# Altium footprint library XS library.PcbLib: 379 footprints (part 1 of 24)
Each footprint in its own frame and in the unit in brackets; x right, y up, seen from the top. Pads: shape width x height; smd on the part's side, far side on the other; paste and mask are expansions set on the pad; w line width, h text height; cw(c..) or ccw(c..) is an arc to the next point about the centre after c.
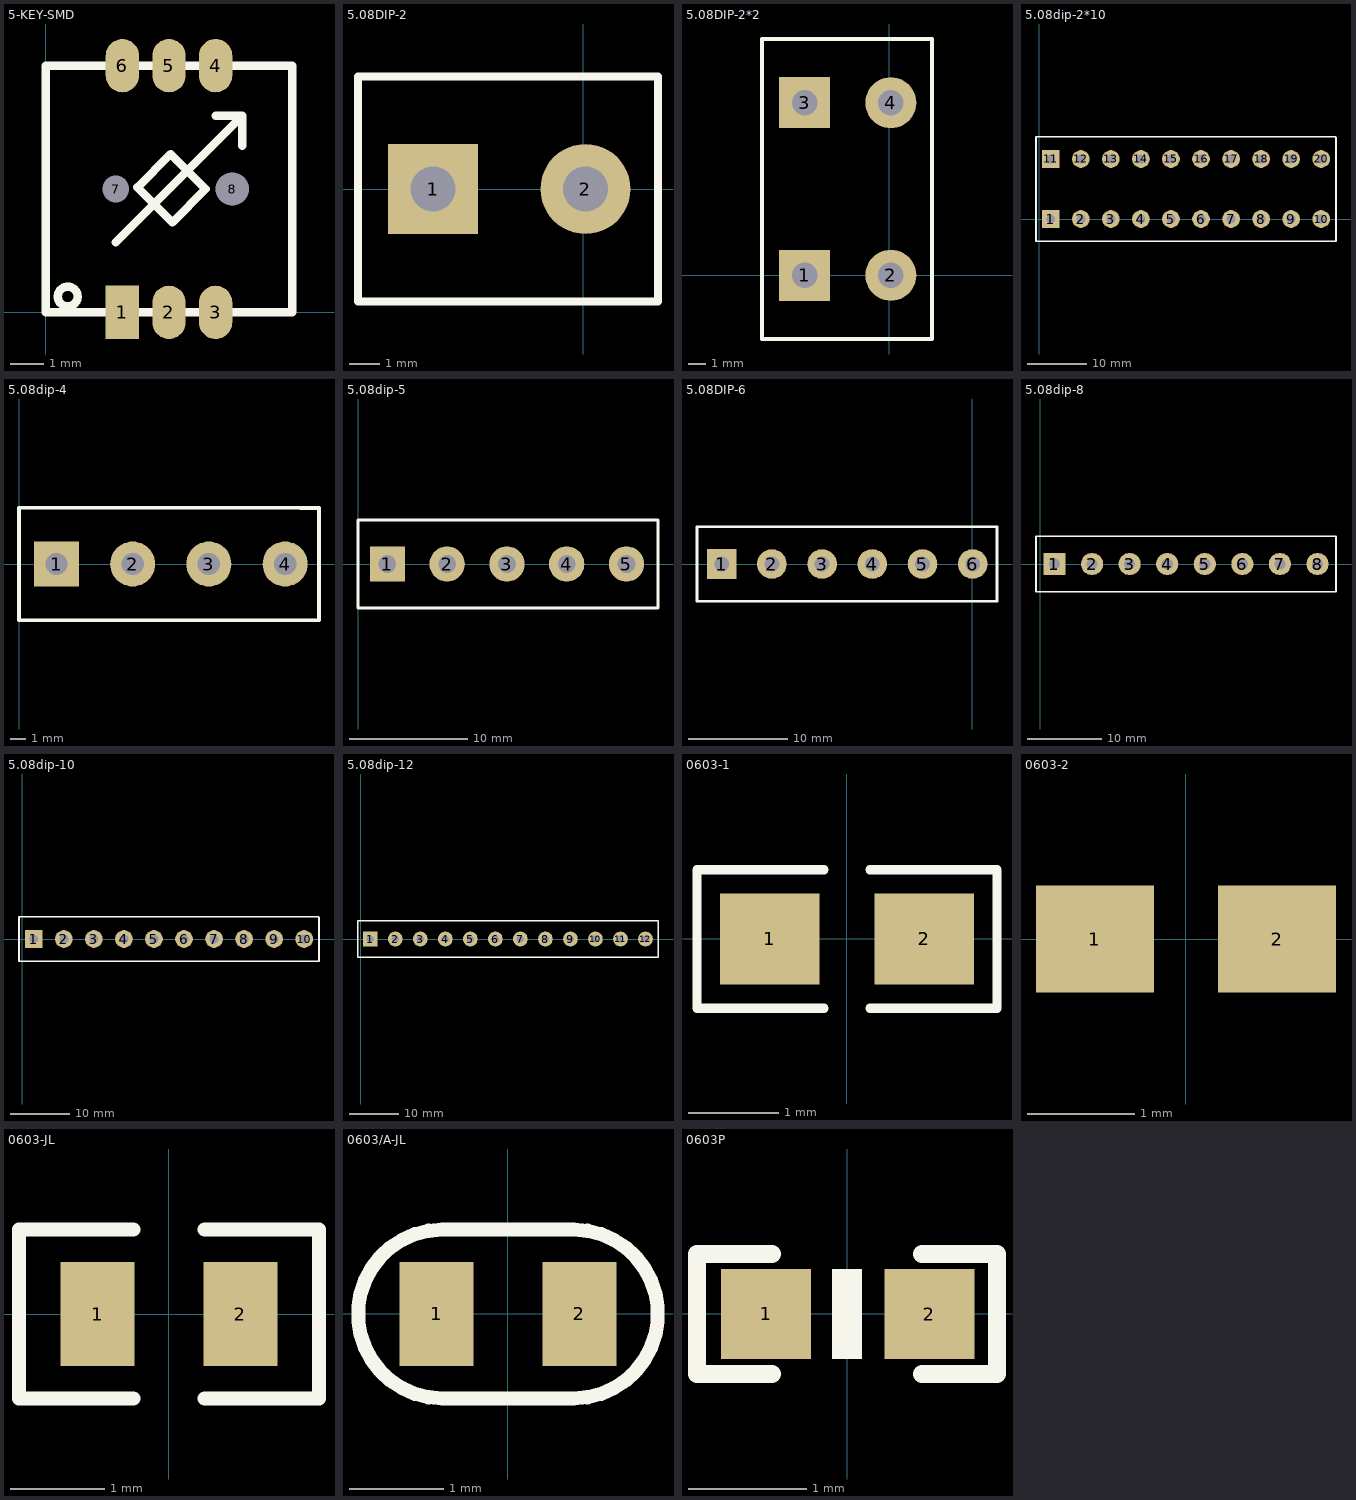
[diagram p0: the footprints below, top view; thin cyan lines are the x and y axes]

## 5-KEY-SMD [mm]
pads (8):
  rect 1x1.6 smd: 1(2.3,0)
  oval 1x1.6 smd: 2(3.7,0) 3(5.1,0) 4(5.1,7.4) 5(3.7,7.4) 6(2.3,7.4)
  round 0.5 hole 0.8 unplated: 7(2.1,3.7)
  round 0.5 hole 1 unplated: 8(5.6,3.7)
Top Overlay:
  circle w0.254: c0.661,0.474 r0.298
  lines w0.254: 2.1,2.1 5.9,5.9 ; 5.1,5.9 5.9,5.9 ; 5.9,5 5.9,5.9 ; 0,0 7.4,0 7.4,7.4 0,7.4 0,0 ; 2.75,3.75 3.8,2.7 4.8,3.7 3.75,4.75 2.75,3.75

## 5.08DIP-2 [mm]
pads (2):
  rect 3x3 hole 1.5: 1(-5,0)
  round 3 hole 1.5: 2(0.08,0)
Top Overlay:
  lines w0.254: -7.5,-3.75 -7.5,0 -7.5,3.75 2.5,3.75 2.5,-3.75 -7.5,-3.75

## 5.08DIP-2*2 [mm]
pads (4):
  rect 3x3 hole 1.5: 1(-5,0) 3(-5,10.15)
  round 3 hole 1.5: 2(0.08,0) 4(0.08,10.15)
Top Overlay:
  lines w0.254: 2.5,3.125 2.5,6.65 ; 2.5,3.75 2.5,-3.75 -7.5,-3.75 -7.5,0 -7.5,3.75 -7.5,6.4 -7.5,10.15 -7.5,13.9 2.5,13.9 2.5,6.4

## 5.08dip-2*10 [mm]
pads (20):
  rect 3x3 hole 1.5: 1(1.94,0) 11(1.94,10.15)
  round 3 hole 1.5: 2(7.02,0) 3(12.1,0) 4(17.18,0) 5(22.26,0) 6(27.34,0) 7(32.42,0) 8(37.5,0) 9(42.58,0) 10(47.66,0) 12(7.02,10.15) 13(12.1,10.15) 14(17.18,10.15) 15(22.26,10.15) 16(27.34,10.15) 17(32.42,10.15) 18(37.5,10.15) 19(42.58,10.15) 20(47.66,10.15)
Top Overlay:
  lines w0.254: -0.56,3.475 -0.56,6.4 -0.56,10.15 -0.56,13.9 39.65,13.9 40,13.9 50.098,13.9 50.165,13.833 50.165,6.4 ; -0.56,3.75 -0.56,0 -0.56,-3.75 40,-3.75 50.165,-3.75 50.165,3.683 50.098,3.75 ; 50.165,2.625 50.165,7.375

## 5.08dip-4 [mm]
pads (4):
  rect 3x3 hole 1.5: 1(2.5,0)
  round 3 hole 1.5: 2(7.58,0) 3(12.66,0) 4(17.74,0)
Top Overlay:
  lines w0.254: 20,3.73 18.77,3.73 18.75,3.75 0,3.75 0,0 0,-3.75 20,-3.75 20,3.75

## 5.08dip-5 [mm]
pads (5):
  rect 3x3 hole 1.5: 1(2.5,0)
  round 3 hole 1.5: 2(7.58,0) 3(12.66,0) 4(17.74,0) 5(22.82,0)
Top Overlay:
  lines w0.254: 0,-3.75 0,0 0,3.75 18.75,3.75 18.77,3.73 25.5,3.73 25.5,-3.75 0,-3.75

## 5.08DIP-6 [mm]
pads (6):
  rect 3x3 hole 1.5: 1(-25.36,0)
  round 3 hole 1.5: 2(-20.28,0) 3(-15.2,0) 4(-10.12,0) 5(-5.04,0) 6(0.04,0)
Top Overlay:
  lines w0.254: -27.86,-3.75 -27.86,0 -27.86,3.75 2.5,3.75 2.5,-3.75 -27.86,-3.75

## 5.08dip-8 [mm]
pads (8):
  rect 3x3 hole 1.5: 1(1.94,0)
  round 3 hole 1.5: 2(7.02,0) 3(12.1,0) 4(17.18,0) 5(22.26,0) 6(27.34,0) 7(32.42,0) 8(37.5,0)
Top Overlay:
  lines w0.254: -0.56,-3.75 -0.56,0 -0.56,3.75 39.65,3.75 40,3.75 40,-3.75 -0.56,-3.75

## 5.08dip-10 [mm]
pads (10):
  rect 3x3 hole 1.5: 1(1.94,0)
  round 3 hole 1.5: 2(7.02,0) 3(12.1,0) 4(17.18,0) 5(22.26,0) 6(27.34,0) 7(32.42,0) 8(37.5,0) 9(42.58,0) 10(47.66,0)
Top Overlay:
  lines w0.254: -0.56,-3.75 40,-3.75 50.165,-3.75 50.165,3.683 50.098,3.75 40,3.75 39.65,3.75 -0.56,3.75 -0.56,0 -0.56,-3.75

## 5.08dip-12 [mm]
pads (12):
  rect 3x3 hole 1.5: 1(1.94,0)
  round 3 hole 1.5: 2(7.02,0) 3(12.1,0) 4(17.18,0) 5(22.26,0) 6(27.34,0) 7(32.42,0) 8(37.5,0) 9(42.58,0) 10(47.66,0) 11(52.74,0) 12(57.82,0)
Top Overlay:
  lines w0.254: -0.56,-3.75 -0.56,0 -0.56,3.75 39.65,3.75 40,3.75 50.098,3.75 60.37,3.75 60.37,-3.72 60.34,-3.75 50.098,-3.75 40,-3.75 -0.56,-3.75

## 0603-1 [mm] "贴片带丝印"
height 0.6
pads (2):
  rect 1.1x1 smd: 1(-0.85,0) 2(0.85,0)
Top Overlay:
  lines w0.1: -0.254,-0.762 -1.651,-0.762 -1.651,0.762 -0.254,0.762 ; 0.254,-0.762 1.651,-0.762 1.651,0.762 0.254,0.762
3D body: height 1, standoff 0, extent -1.143,-0.381 1.143,0.381

## 0603-2 [mm] "贴片无丝印"
height 0.6
pads (2):
  rect 1.1x1 smd: 1(-0.85,0) 2(0.85,0)

## 0603-8P4R [mm] "贴片排阻带丝印"
height 0.6

## 0603-JL [mm]
pads (2):
  rect 0.787x1.11 smd: 1(-0.761,0) 2(0.762,0)
Top Overlay:
  lines w0.15: -0.381,-0.9 -1.6,-0.9 -1.6,0.9 -0.381,0.9 ; 0.381,-0.9 1.6,-0.9 1.6,0.9 0.381,0.9

## 0603/A-JL [mm]
pads (2):
  rect 0.787x1.11 smd: 1(-0.762,0) 2(0.761,0)
Top Overlay:
  lines w0.15: -0.7,-0.9 cw(c-0.7,0) -0.7,0.9 0.7,0.9 cw(c0.7,0) 0.7,-0.9 -0.7,-0.9

## 0603P [mil]
pads (2):
  rect 30x30 smd: 1(-27,0) 2(27.5,-0.06)
Top Overlay:
  region: 5,-15.06 5,14.94 -5,14.94 -5,-15.06
  lines w6: -25,-20.06 -50,-20.06 -50,19.94 -25,19.94 ; 25,-20.06 50,-20.06 50,19.94 25,19.94